# Altium footprint library UDEMY_Library.PcbLib: 35 footprints (part 2 of 3)
Each footprint in its own frame and in the unit in brackets; x right, y up, seen from the top. Pads: shape width x height; smd on the part's side, far side on the other; paste and mask are expansions set on the pad; w line width, h text height; cw(c..) or ccw(c..) is an arc to the next point about the centre after c.
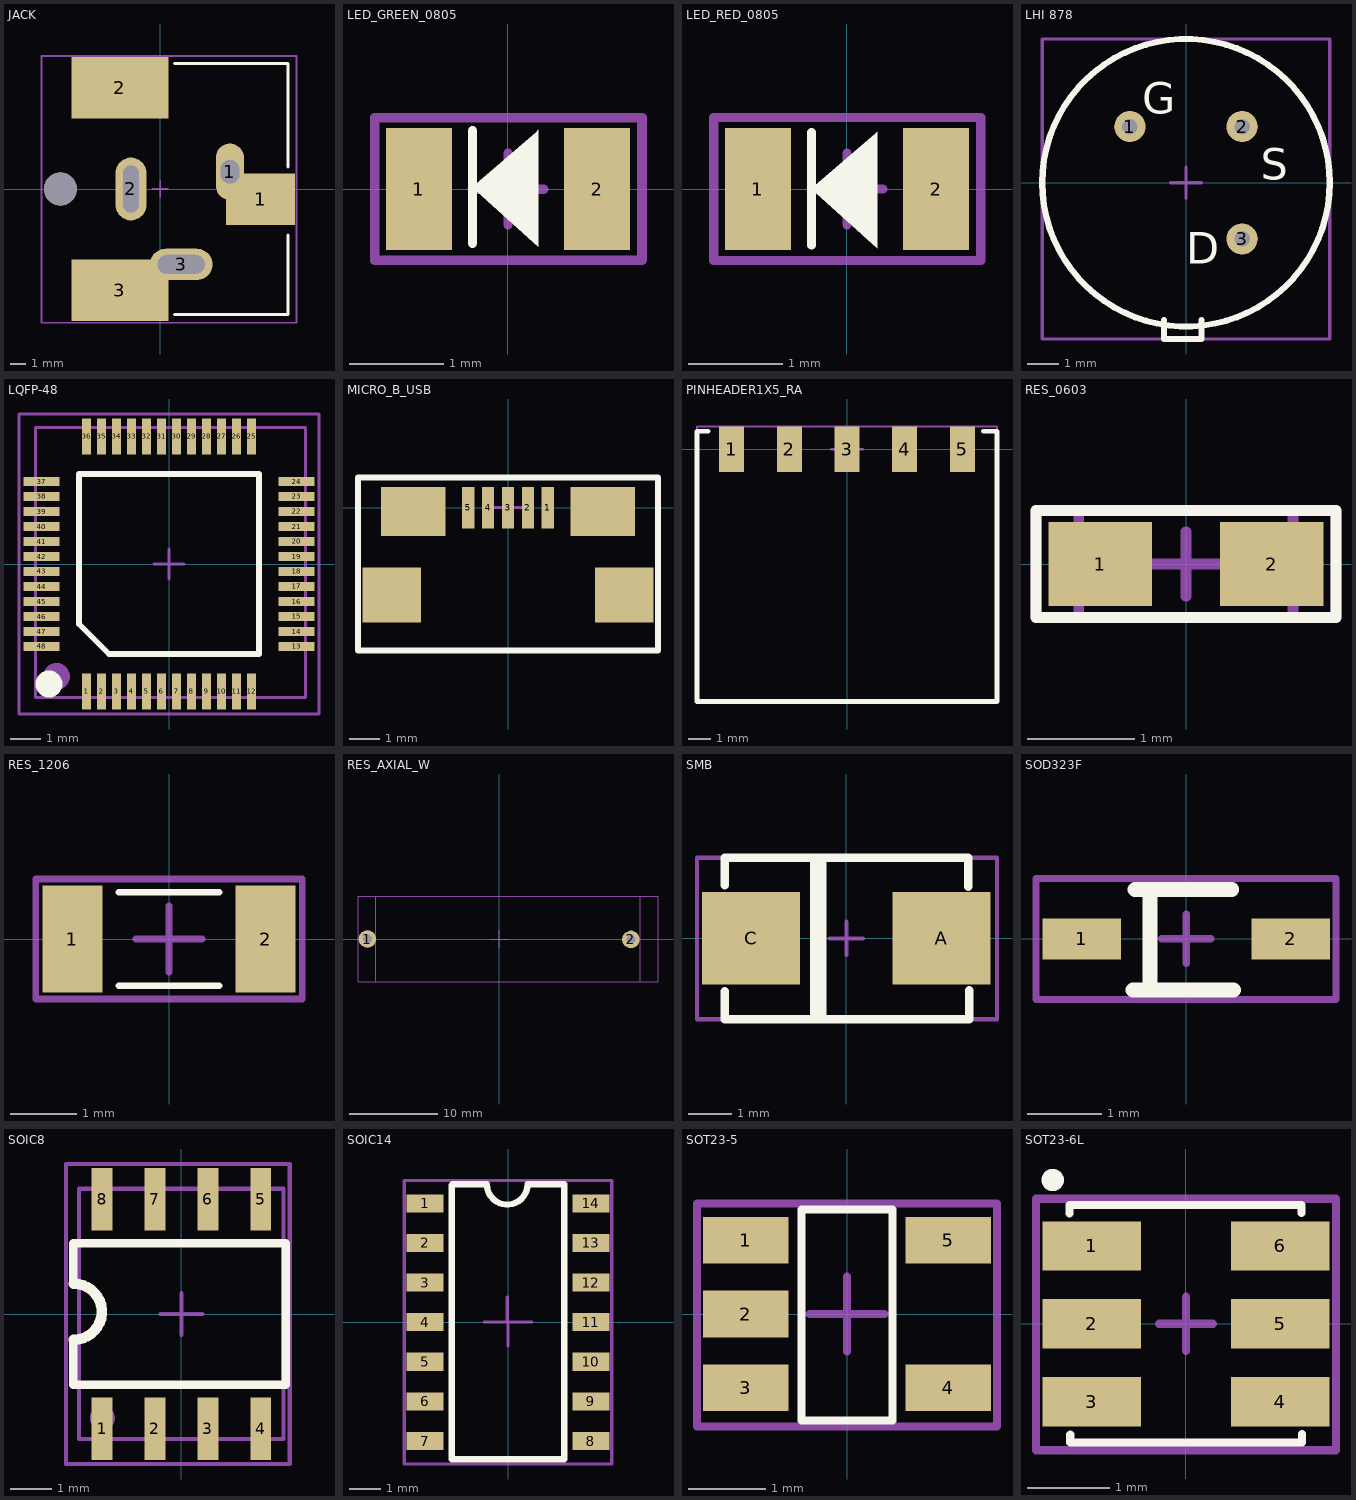
[diagram p1: the footprints below, top view; thin cyan lines are the x and y axes]

## JACK [mm]
pads (7):
  oval 1.8x3.6 hole 1.2 slot 1.5 at 90 deg: 1(4.425,1.1)
  rect 4.4x3.3 smd: 1(6.375,-0.65)
  rect 6.2x3.9 smd: 2(-2.575,6.45) 3(-2.575,-6.45)
  oval 2x4 hole 1 slot 3 at 90 deg: 2(-1.875,0)
  oval 4x2 hole 1.2 slot 3 at 0 deg: 3(1.325,-4.8)
  round 2.1 hole 2.1 unplated: ""(-6.375,0)
Top Overlay:
  lines w0.2: 0.889,-8.001 8.128,-8.001 8.128,-2.921 ; 0.889,8.001 8.128,8.001 8.128,1.397
Top Component Center:
  lines w0.1: -0.508,0 0.508,0 0,0 0,0.508 0,-0.508 ; -7.57,-8.524 -7.57,8.469 -5.741,8.469 8.661,8.469 8.661,-8.524 -7.57,-8.524
Top Designator:
  lines w0.1: -7.57,-8.524 -7.57,8.469 -5.741,8.469 8.661,8.469 8.661,-8.524 -7.57,-8.524
  text ".Designator" at -8.898,-0.866 h2
3D body "PJ-037AH-SMT-TR.stp": height 11, standoff -3.4, extent -9.541,-7.529 7.559,7.671

## LED_GREEN_0805 [mm]
pads (2):
  rect 0.7x1.3 smd mask+0.05: 1(-0.95,0) 2(0.95,0)
Top Overlay:
  region: -0.379,0.022 0.299,0.606 0.325,0.631 0.325,-0.613
  lines w0.1: -0.379,-0.578 -0.379,0.622
Top Component Center:
  lines w0.1: -0.381,0 0,0 ; 0,-0.381 0,0 ; 0,0.381 0,0 ; 0.381,0 0,0 ; -1.422,-0.762 -1.422,0.762 1.428,0.762 1.428,-0.762 -1.422,-0.762
Top Designator:
  lines w0.1: -1.42,-0.76 1.43,-0.76 1.43,0.764 -1.42,0.764 -1.42,-0.76
  text ".Designator" at -4.189,-0.3 h1
3D body "SMD_0805LED_GREEN.STEP": height 1.1, standoff 0, extent -1.01,-0.625 1.01,0.625

## LED_RED_0805 [mm]
pads (2):
  rect 0.7x1.3 smd mask+0.05: 1(-0.95,0) 2(0.95,0)
Top Overlay:
  region: -0.379,0.003 0.3,0.588 0.325,0.613 0.325,-0.632
  lines w0.1: -0.379,-0.597 -0.379,0.603
Top Component Center:
  lines w0.1: -0.381,0 0,0 ; 0,-0.381 0,0 ; 0,0.381 0,0 ; 0.381,0 0,0 ; -1.422,-0.762 -1.422,0.762 1.428,0.762 1.428,-0.762 -1.422,-0.762
Top Designator:
  lines w0.1: -1.422,-0.762 1.428,-0.762 1.428,0.762 -1.422,0.762 -1.422,-0.762
  text ".Designator" at -4.191,-0.302 h1
3D body "SMD_0805LED_RED.STEP": height 1.1, standoff 0, extent -1.01,-0.625 1.01,0.625

## LHI 878 [mm]
pads (3):
  round 1 hole 0.5 mask+0.05: 1(-1.796,1.796) 2(1.796,1.796) 3(1.796,-1.796)
Top Overlay:
  circle w0.2: c0,0 r4.6
  lines w0.2: -0.7,-4.4 -0.7,-5 0.5,-5 0.5,-4.4
  text "G" at -1.4,2.2 h1
  text "D" at 0,-2.6 h1
  text "S" at 2.4,0.1 h1
  text "D" at 0,-2.6 h1
Top Component Center:
  lines w0.1: -0.5,0 0.5,0 0,0 0,-0.5 0,0.5 ; -4.6,-5 -4.6,4.6 4.6,4.6 4.6,-5 -4.6,-5
Top Designator:
  lines w0.1: -4.6,-5 -4.6,4.6 4.6,4.6 4.6,-5 -4.6,-5
  text ".Designator" at -5.446,-1.146 h1.5
3D body "User Library-LHI878.step": height 4.6, standoff -2.4, extent -4.6,-5.029 4.6,4.6

## LQFP-48 [mm] "7mm x 7mm"
pads (48):
  rect 0.3x1.2 smd mask+0.05: 1(-2.75,-4.25) 2(-2.25,-4.25) 3(-1.75,-4.25) 4(-1.25,-4.25) 5(-0.75,-4.25) 6(-0.25,-4.25) 7(0.25,-4.25) 8(0.75,-4.25) 9(1.25,-4.25) 10(1.75,-4.25) 11(2.25,-4.25) 12(2.75,-4.25) 25(2.75,4.25) 26(2.25,4.25) 27(1.75,4.25) 28(1.25,4.25) 29(0.75,4.25) 30(0.25,4.25) 31(-0.25,4.25) 32(-0.75,4.25) 33(-1.25,4.25) 34(-1.75,4.25) 35(-2.25,4.25) 36(-2.75,4.25)
  rect 1.2x0.3 smd mask+0.05: 13(4.25,-2.75) 14(4.25,-2.25) 15(4.25,-1.75) 16(4.25,-1.25) 17(4.25,-0.75) 18(4.25,-0.25) 19(4.25,0.25) 20(4.25,0.75) 21(4.25,1.25) 22(4.25,1.75) 23(4.25,2.25) 24(4.25,2.75) 37(-4.25,2.75) 38(-4.25,2.25) 39(-4.25,1.75) 40(-4.25,1.25) 41(-4.25,0.75) 42(-4.25,0.25) 43(-4.25,-0.25) 44(-4.25,-0.75) 45(-4.25,-1.25) 46(-4.25,-1.75) 47(-4.25,-2.25) 48(-4.25,-2.75)
Top Overlay:
  circle w0.5: c-4,-4 r0.2
  lines w0.2: -3,-2 -2,-3 3,-3 3,-2.75 3,3 -3,3 -3,-2
Top Component Center:
  lines w0.1: -0.5,0 0.5,0 ; 0,-0.5 0,0.5 ; -5,-5 -5,5 -3,5 -2.75,5 5,5 5,-5 -5,-5
Top Designator:
  lines w0.1: -5,-5 5,-5 5,2 5,5 -5,5 -5,-5
  text ".Designator" at -1.868,-0.258 h1.52
Mechanical 13:
  circle w0.5: c-3.75,-3.75 r0.2
  lines w0.1: -4.45,4.552 4.552,4.552 4.552,-4.452 -4.449,-4.452 -4.449,4.552
3D body "STM32-LQFP48.SLDPRT": height 1.5, standoff 0, extent -4.45,-4.45 4.55,4.55

## MICRO_B_USB [mm]
pads (9):
  rect 0.4x1.35 smd mask+0.05: 1(1.3,0) 2(0.65,0) 3(0,0) 4(-0.65,0) 5(-1.3,0)
  rect 1.9x1.8 smd mask+0.05: ""(-3.8,-2.85) ""(3.8,-2.85)
  rect 2.1x1.6 smd mask+0.05: ""(-3.1,-0.127) ""(3.1,-0.127)
Top Overlay:
  lines w0.2: -4.902,-4.674 -4.902,0.991 4.902,0.991 4.902,-4.674 -4.902,-4.674
Top Component Center:
  lines w0.1: -0.508,0 0,0 ; 0,-0.508 0,0 ; 0,0.508 0,0 ; 0.508,0 0,0 ; -4.902,-4.674 -4.902,0.991 4.902,0.991 4.902,-4.674 -4.902,-4.674
Top Designator:
  lines w0.1: -4.902,-4.674 -4.902,0.991 ; -4.902,-4.674 4.902,-4.674 ; -4.902,-4.674 4.902,-4.674 ; -4.902,-4.674 -4.902,0.991 ; -4.902,0.991 4.902,0.991 ; -4.902,0.991 4.902,0.991 ; 4.902,-4.674 4.902,0.991 ; 4.902,-4.674 4.902,0.991
  text ".Designator" at -7.62,-2.388 h1.52
3D body "10118192C.stp": height 2.79, standoff -0.22, extent -3.976,-5.446 3.937,0.214

## PINHEADER1X5_RA [mm]
pads (5):
  rect 1.1x2 smd mask+0.05: 1(-5.08,0) 2(-2.54,0) 3(0,0) 4(2.54,0) 5(5.08,0)
Top Overlay:
  lines w0.2: -6.1,0.8 -6.6,0.8 -6.6,-11.1 6.6,-11.1 6.6,0.8 6,0.8
Top Component Center:
  lines w0.1: 0,0.7 0,-0.7 0,0 ; 0,0 -0.7,0 0.7,0 0,0 ; -6.6,-11.1 6.6,-11.1 6.6,1 -6.6,1 -6.6,-11.1
Top Designator:
  lines w0.1: -6.6,-11.1 -6.6,1 6.6,1 6.6,-11.1 -6.6,-11.1
  text ".Designator" at -4.046,-5.838 h1.52
3D body "SMH-105-02-L-S.stp": height 2.41, standoff -0.01, extent -6.604,-11.138 6.604,0.8

## RES_0603 [mil]
pads (2):
  rect 38x31 smd mask+1.97: 1(-31.5,0) 2(31.5,0)
Top Overlay:
  lines w3.94: -55.12,-19.68 -55.12,19.68 -51.18,19.68 55.12,19.68 55.12,-19.68 27.56,-19.68 -55.12,-19.68
Top Component Center:
  lines w3.94: -55.12,19.68 -55.12,-19.68 -13.78,-19.68 55.12,-19.68 55.12,19.68 -53.15,19.68 ; -11.81,0 11.81,0 ; 0,-11.81 0,11.81
Top Designator:
  lines w3.94: -53.15,19.68 11.81,19.68 55.12,19.68 55.12,-19.68 -55.12,-19.68 -55.12,19.68 -39.37,19.68
  text ".Designator" at -39.37,-9.19 h19.68
Mechanical 13:
  lines w3.94: -39.37,-11.81 -39.37,-19.68 ; 39.31,11.81 39.31,19.68 33.46,19.68 1.97,19.68 -39.37,19.68 -39.37,-19.68 ; 39.37,11.81 39.37,-11.81 ; -39.37,-19.68 -34.45,-19.68 ; -39.37,-19.68 -34.45,-19.68 ; -34.45,-19.68 0,-19.68 39.34,-19.68 39.34,-11.81 ; 39.34,-11.81 39.37,-11.81
3D body "0603S1.STEP": height 16.89, standoff -0.83, extent -38.46,-19.28 39.37,19.28

## RES_1206 [mm]
pads (2):
  rect 0.9x1.6 smd mask+0.05: 1(-1.45,0) 2(1.45,0)
Top Overlay:
  lines w0.1: -0.75,-0.7 0.75,-0.7 ; -0.75,0.7 0.75,0.7
Top Component Center:
  lines w0.1: -0.5,0 0.5,0 0,0 0,-0.5 0,0.5 ; -2,-0.9 2,-0.9 2,0.9 -2,0.9 -2,-0.9
Top Designator:
  lines w0.1: -2,-0.9 -2,0.9 2,0.9 2,-0.9 -2,-0.9
  text ".Designator" at -2.35,-0.417 h1
3D body "res1206r.STEP": height 0.55, standoff 0, extent -1.984,-0.938 1.984,0.938

## RES_AXIAL_W [mm]
pads (2):
  round 2 hole 1 mask+0.05: 1(-15.011,0) 2(14.935,-0.051)
Top Component Center:
  lines w0.1: 0,-1 0,1 0,0 ; 0,0 -1,0 0,0 ; 0,0 1,0 0,0 ; -14.075,-4.875 -14.075,4.88 -8.96,4.88 18.015,4.88 18.015,-4.875 -14.075,-4.875
Top Designator:
  lines w0.1: -16.075,-4.875 -16.075,4.88 -10.96,4.88 16.015,4.88 16.015,-4.875 -16.075,-4.875
  text ".Designator" at -7.746,-0.238 h1.52
3D body: height 5, standoff -4, extent 14.535,-0.395 15.335,0.405
3D body: height 5.2, standoff 4.4, extent 6.15,-0.395 15.15,0.405
3D body: height 5.2, standoff 4.4, extent -15.215,-0.4 -6.215,0.4
3D body: height 5, standoff -4, extent -15.4,-0.4 -14.6,0.4
3D body: height 9.65, standoff 0, extent -11,-4.825 11,4.825

## SMB [mm]
pads (2):
  rect 2.25x2.12 smd mask+0.05: A(2.185,0) C(-2.185,0)
Top Overlay:
  rectangle: -0.838,-1.88 -0.457,1.854
  lines w0.2: -2.794,-1.219 -2.794,-1.854 2.819,-1.854 2.819,-1.194 ; -2.794,1.219 -2.794,1.854 2.794,1.854 2.794,1.194
Top Component Center:
  lines w0.1: -0.381,0 0,0 ; 0,-0.381 0,0 ; 0,0.381 0,0 ; 0.381,0 0,0 ; -3.429,-1.854 -3.429,1.854 -2.743,1.854 3.454,1.854 3.454,-1.854 -3.429,-1.854
Top Designator:
  lines w0.1: -3.429,-1.854 3.454,-1.854 3.454,1.854 -2.743,1.854 -3.429,1.854 -3.429,-1.854
  text ".Designator" at -4.851,-0.353 h1
3D body "step_temp.STEP": height 2.44, standoff -0.03, extent -2.72,-1.78 2.72,1.78

## SOD323F [mm]
pads (2):
  rect 1.05x0.55 smd mask+0.05: 1(-1.4,0) 2(1.4,0)
Top Overlay:
  lines w0.2: -0.711,-0.686 0.635,-0.686 ; -0.686,0.66 0.61,0.66 ; -0.483,-0.635 -0.483,0.635
Top Component Center:
  lines w0.1: -0.33,0 0.33,0 0,0 0,0.33 0,-0.33 ; -2.012,-0.813 -2.012,0.809 -0.601,0.809 -0.588,0.809 2.007,0.809 2.007,-0.813 -2.012,-0.813
Top Designator:
  lines w0.1: -2.012,-0.813 -2.012,0.809 -0.601,0.809 -0.588,0.809 2.007,0.809 2.007,-0.813 -2.012,-0.813
  text ".Designator" at -4.75,-0.327 h1
3D body "User Library-SOD323F-1.step": height 1, standoff 0, extent -1.25,-0.675 1.25,0.675

## SOIC8 [mm]
pads (8):
  rect 0.5x1.5 smd mask+0.05: 1(-1.905,-2.75) 2(-0.635,-2.75) 3(0.635,-2.75) 4(1.905,-2.75) 5(1.905,2.75) 6(0.635,2.75) 7(-0.635,2.75) 8(-1.905,2.75)
Top Overlay:
  lines w0.2: -2.6,-0.6 -2.6,-0.9 -2.6,-1.7 2.5,-1.7 2.5,1.7 2.4,1.7 1,1.7 -1,1.7 -2.6,1.7 -2.6,0.742
  lines w0.254: -2.581,-0.616 ccw(c-2.581,0.055) -2.581,0.726
Top Component Center:
  lines w0.1: -0.5,0 0,0 ; 0,0.5 0,-0.5 0,0 ; 0.5,0 0,0 ; -2.767,-3.6 2.6,-3.6 2.6,3.6 0.9,3.6 -1.9,3.6 -2.7,3.6 -2.767,3.6 -2.767,1.785 -2.767,-1.833 -2.767,-3.6
Top Designator:
  lines w0.1: -2.767,-3.6 -2.767,-1.833 -2.767,1.785 -2.767,3.6 -2.7,3.6 -1.9,3.6 0.9,3.6 2.6,3.6 2.6,-3.6 -2.767,-3.6
  text ".Designator" at 0.238,-1.746 h1.52
Mechanical 13:
  circle w0.4: c-1.9,-2.5 r0.1
  lines w0.1: -2.459,3.006 -2.459,-2.997 2.4,-2.997 2.4,-3 2.448,-3 2.448,3.006 -2.452,3.006
3D body "User Library-SOIC-8-1.step": height 1.75, standoff 0, extent -2.45,-3 2.45,3

## SOIC14 [mm]
pads (14):
  rect 1.18x0.58 smd mask+0.05: 1(-2.66,3.81) 2(-2.66,2.54) 3(-2.66,1.27) 4(-2.66,0) 5(-2.66,-1.27) 6(-2.66,-2.54) 7(-2.66,-3.81) 8(2.66,-3.81) 9(2.66,-2.54) 10(2.66,-1.27) 11(2.66,0) 12(2.66,1.27) 13(2.66,2.54) 14(2.66,3.81)
Top Overlay:
  lines w0.2: -1.803,-4.394 -1.803,4.394 -1.778,4.42 -0.676,4.42 ccw(c-0.025,4.42) 0.626,4.42 1.803,4.42 1.803,-4.394 -1.803,-4.394
Top Component Center:
  lines w0.1: -0.762,0 0,0 ; -0.023,0.041 -0.023,0.803 ; 0,-0.762 0,0 ; 0.762,0 0,0 ; -3.327,-4.547 3.327,-4.547 3.327,4.547 -3.327,4.547 -3.327,-4.547
Top Designator:
  lines w0.1: -3.327,-4.547 -3.327,4.547 3.327,4.547 3.327,-4.547 -3.327,-4.547
  text ".Designator" at -4.851,-0.048 h1
3D body "User Library-so14-1.step": height 1.7, standoff 0, extent -3,-4.4 3,4.4

## SOT23-5 [mm]
pads (5):
  rect 1.1x0.6 smd mask+0.05: 1(-1.3,0.95) 2(-1.3,0) 3(-1.3,-0.95) 4(1.3,-0.95) 5(1.3,0.95)
Top Overlay:
  lines w0.1: -0.584,-1.372 -0.584,1.346 0.584,1.346 0.584,-1.372 0.292,-1.372 -0.292,-1.372 -0.584,-1.372
Top Component Center:
  lines w0.1: -0.483,0 0,0 ; 0,-0.483 0,0 ; 0,0.483 0,0 ; 0.483,0 0,0 ; -1.93,-1.448 1.93,-1.448 1.93,1.422 -1.549,1.422 -1.93,1.422 -1.93,-1.448
Top Designator:
  lines w0.1: -1.93,-1.448 1.93,-1.448 1.93,1.422 -1.549,1.422 -1.93,1.422 -1.93,-1.448
  text ".Designator" at -4.826,-0.302 h1
3D body "OPA314AIDBVR.STEP": height 1.45, standoff 0, extent -1.4,-1.45 1.4,1.45

## SOT23-6L [mm]
pads (6):
  rect 1.2x0.6 smd mask+0.05: 1(-1.15,0.95) 2(-1.15,0) 3(-1.15,-0.95) 4(1.15,-0.95) 5(1.15,0) 6(1.15,0.95)
Top Overlay:
  circle w0.2: c-1.626,1.753 r0.036
  lines w0.1: -1.419,1.345 -1.419,1.446 -1.418,1.448 1.407,1.448 1.407,1.351 ; -1.412,-1.351 -1.412,-1.448 1.412,-1.448 1.414,-1.446 1.414,-1.345
Top Component Center:
  lines w0.1: -0.33,0 0,0 ; 0,-0.33 0,0 ; 0,0.33 0,0 ; 0.33,0 0,0 ; -1.829,-1.541 -1.829,1.524 -1.016,1.524 1.829,1.524 1.829,-1.541 -1.829,-1.541
Top Designator:
  lines w0.1: -1.829,-1.541 -1.829,1.524 -1.016,1.524 1.829,1.524 1.829,-1.541 -1.829,-1.541
  text ".Designator" at -4.166,-0.302 h1
3D body "USBLC6-2SC6.STEP": height 1.42, standoff -0.03, extent -1.4,-1.462 1.4,1.462